# EAGLE library part 418317170904 (library Wurth_Elektronik_Electromechanic_Switch_rev17b)
WS-PT 2.54 mm piano type compact THT Dip Switch with flat actuator, 4 Pole
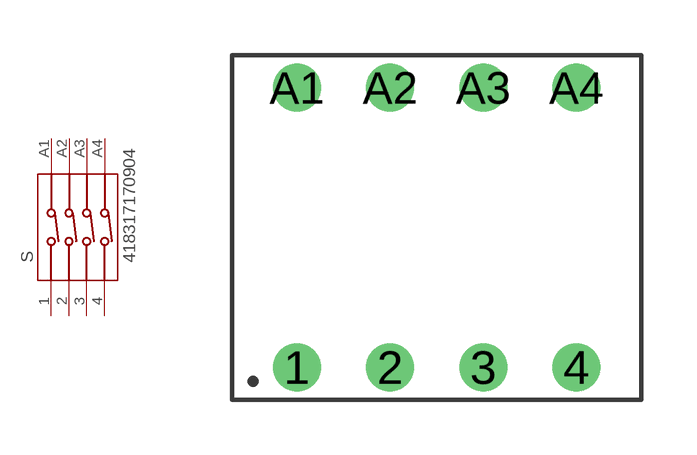
[diagram p64: symbol with the pads of 418317170904; footprint 418317170904]

Designator prefix S

## 418317170904  [418317170904]
1  1  pas
2  2  pas
3  3  pas
4  4  pas
A1  A1  pas
A2  A2  pas
A3  A3  pas
A4  A4  pas

## Footprint 418317170904 (pad centres in mm)
WS-PT 2.54 mm piano type compact THT Dip Switch with flat actuator, 4 Pole
drill 0.8: 1 -3.81,-3.81; 2 -1.27,-3.81; 3 1.27,-3.81; 4 3.81,-3.81; A1 -3.81,3.81; A2 -1.27,3.81; A3 1.27,3.81; A4 3.81,3.81